# Altium schematic symbol library HMC452ST89E.SchLib: 1 symbol
Pins are listed as number, name and electrical type; pins without a type are passive.

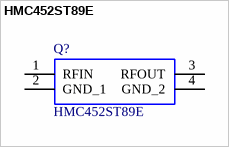
[diagram p0: symbol HMC452ST89E]

## HMC452ST89E
designator Q?
ANALOG DEVICES - HMC452ST89E - RF AMP, 9DB, 0.4-2.2GHZ, 5V, SOT-89-3; Geometry.Height: 1.6mm; Manufacturer_Name: Analog Devices; Manufacturer_Part_Number: HMC452ST89E; RS Part Number: *; RS Price/Stock: *; Arrow Part Number: HMC452ST89E; Arrow Price/Stock: https://www.arrow.com/en/products/hmc452st89e/analog-devices; Datasheet Link: http://www.analog.com/media/en/technical-documentation/data-sheets/hmc452st89.pdf
footprint SOT150P402X160-4N
pins: 1 RFIN, 2 GND_1, 3 RFOUT, 4 GND_2